# Altium schematic symbol library USB_Molex_204926-1103.SchLib: 1 symbol
Pins are listed as number, name and electrical type; pins without a type are passive.

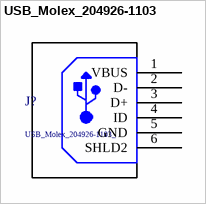
[diagram p0: symbol USB_Molex_204926-1103]

## USB_Molex_204926-1103
designator J?, comment USB_Molex_204926-1103_
USB Connectors MicroUSB B Rec SMT WOut Flange WtrProf; Series: 204926-1103; Supplier Part Number 1: 538-204926-1103; Supplier 1: Mouser
footprint USB_Molex_204926-1103
pins: 1 VBUS, 2 D-, 3 D+, 4 ID, 5 GND, 6 SHLD2